# Altium footprint library BASIC Library.PCBLIB: 464 footprints (part 22 of 30)
Each footprint in its own frame and in the unit in brackets; x right, y up, seen from the top. Pads: shape width x height; smd on the part's side, far side on the other; paste and mask are expansions set on the pad; w line width, h text height; cw(c..) or ccw(c..) is an arc to the next point about the centre after c.
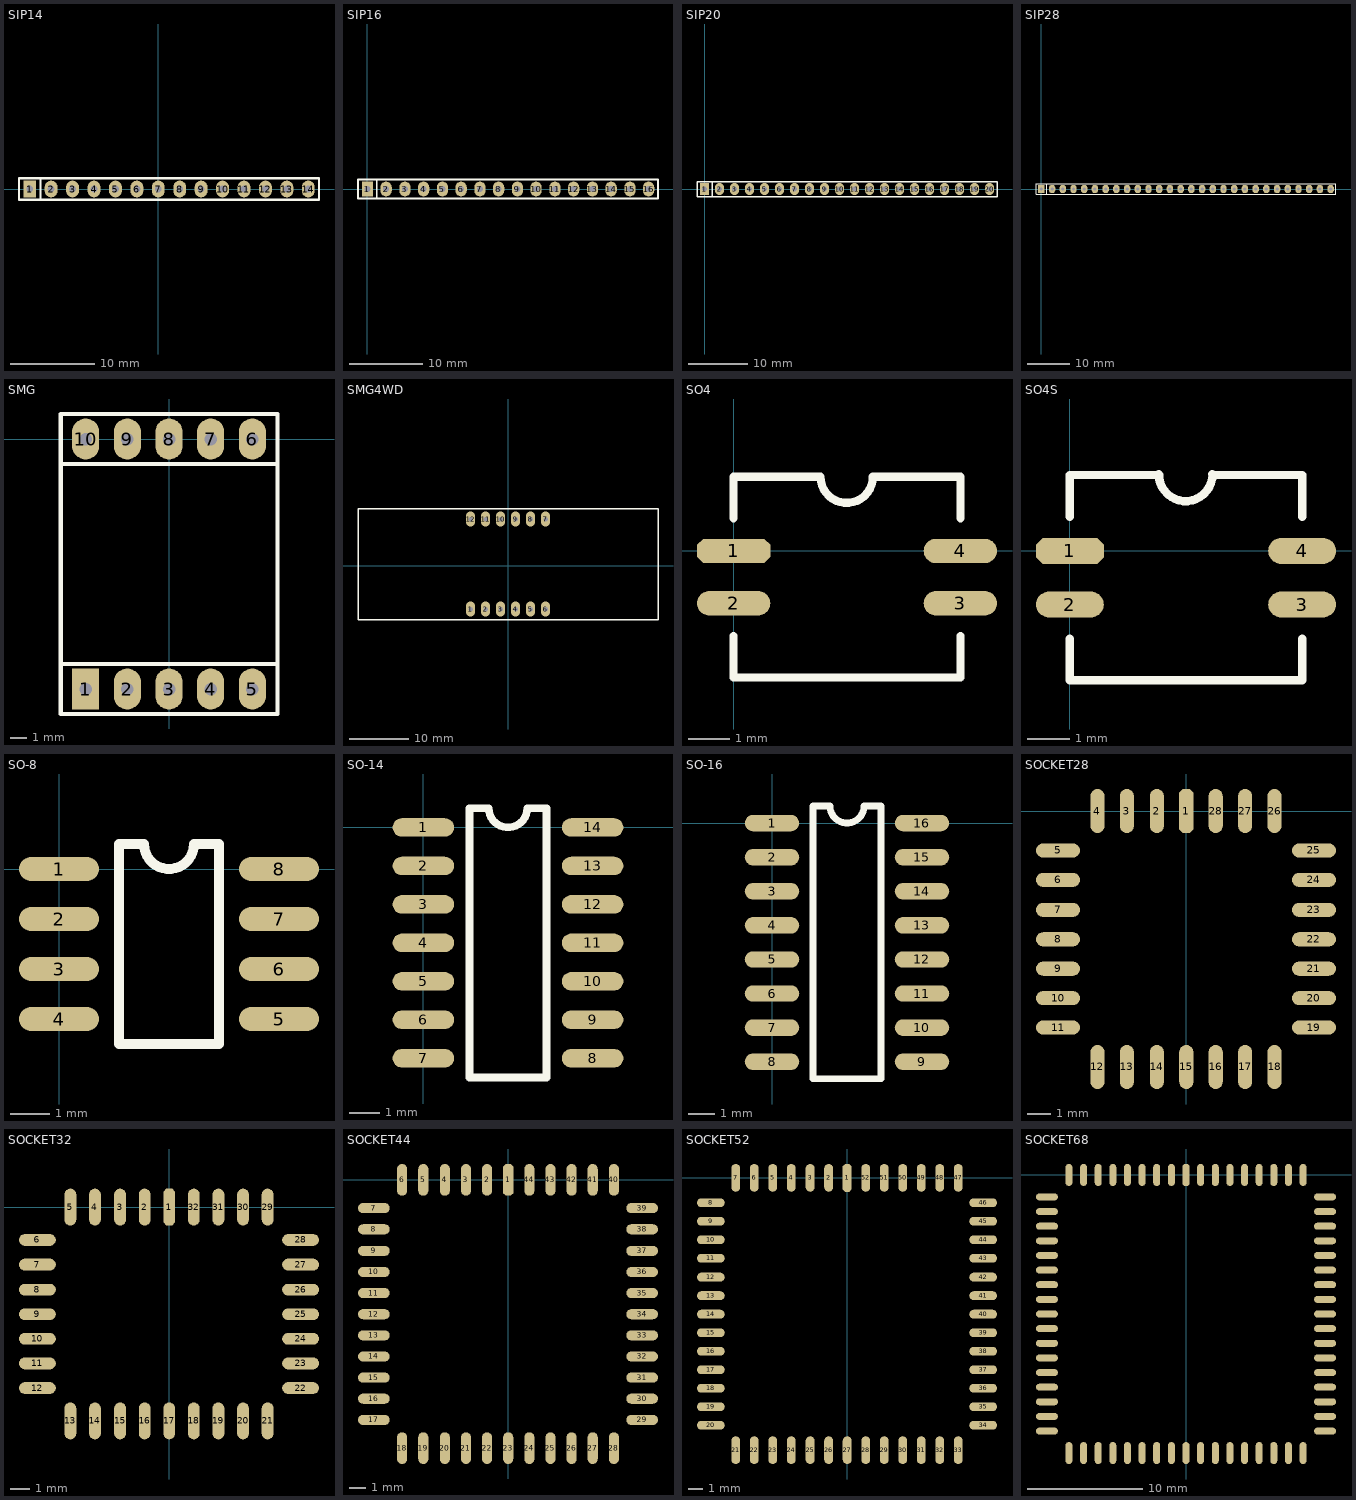
[diagram p21: the footprints below, top view; thin cyan lines are the x and y axes]

## SIP14 [mil]
pads (14):
  rect 60x78.74 hole 32: 1(-600,0)
  oval 60x78.74 hole 32: 2(-500,0) 3(-400,0) 4(-300,0) 5(-200,0) 6(-100,0) 7(0,0) 8(100,0) 9(200,0) 10(300,0) 11(400,0) 12(500,0) 13(600,0) 14(700,0)
TopOverlay:
  lines w10: -550,-50 -550,50 ; -650,-50 -650,50 550,50 750,50 750,-50 550,-50 -650,-50

## SIP16 [mil]
pads (16):
  rect 60x78.74 hole 32: 1(0,0)
  oval 60x78.74 hole 32: 2(100,0) 3(200,0) 4(300,0) 5(400,0) 6(500,0) 7(600,0) 8(700,0) 9(800,0) 10(900,0) 11(1000,0) 12(1100,0) 13(1200,0) 14(1300,0) 15(1400,0) 16(1500,0)
TopOverlay:
  lines w10: 50,-50 50,50 ; -50,-50 -50,50 1550,50 1550,-50 -50,-50

## SIP20 [mil]
pads (20):
  rect 60x78.74 hole 32: 1(0,0)
  oval 60x78.74 hole 32: 2(100,0) 3(200,0) 4(300,0) 5(400,0) 6(500,0) 7(600,0) 8(700,0) 9(800,0) 10(900,0) 11(1000,0) 12(1100,0) 13(1200,0) 14(1300,0) 15(1400,0) 16(1500,0) 17(1600,0) 18(1700,0) 19(1800,0) 20(1900,0)
TopOverlay:
  lines w10: 50,-50 50,50 ; -50,-50 -50,50 1950,50 1950,-50 -50,-50

## SIP28 [mil]
pads (28):
  rect 60x78.74 hole 32: 1(0,0)
  oval 60x78.74 hole 32: 2(100,0) 3(200,0) 4(300,0) 5(400,0) 6(500,0) 7(600,0) 8(700,0) 9(800,0) 10(900,0) 11(1000,0) 12(1100,0) 13(1200,0) 14(1300,0) 15(1400,0) 16(1500,0) 17(1600,0) 18(1700,0) 19(1800,0) 20(1900,0) 21(2000,0) 22(2100,0) 23(2200,0) 24(2300,0) 25(2400,0) 26(2500,0) 27(2600,0) 28(2700,0)
TopOverlay:
  lines w10: 50,-50 50,50 ; -50,-50 -50,50 2750,50 2750,-50 -50,-50

## SMG [mil]
pads (10):
  rect 65x98.42 hole 30: 1(-200,-600)
  oval 65x98.42 hole 30: 2(-100,-600) 3(0,-600) 4(100,-600) 5(200,-600) 6(200,0) 7(100,0) 8(0,0) 9(-100,0) 10(-200,0)
TopOverlay:
  lines w10: -260,-540 260,-540 ; -260,-60 260,-60 ; -260,-660 -260,60 260,60 260,-660 -260,-660

## SMG4WD [mil]
pads (12):
  oval 60x99.37 hole 30: 1(-250,-290) 2(-150,-290) 3(-50,-290) 4(50,-290) 5(150,-290) 6(250,-290) 7(250,310) 8(150,310) 9(50,310) 10(-50,310) 11(-150,310) 12(-250,310)
TopOverlay:
  lines w10: -1000,-360 1000,-360 1000,380 -1000,380 -1000,-360

## SO4 [mil]
pads (4):
  oct 70x23.33 smd: 1(0,0)
  oval 70x23.33 smd: 2(0,-50) 3(216.67,-50) 4(216.67,0)
TopOverlay:
  lines w7.87: 0,-81.35 0,-120.87 216.67,-120.87 216.67,-81.35 ; 0,31.35 0,70.87 82.68,70.87 ; 83.03,70.95 ccw(c108.03,70.95) 133.03,70.95 ; 133.86,70.87 216.53,70.87 ; 216.67,31.35 216.67,70.87

## SO4S [mil]
pads (4):
  oct 63.33x24.17 smd: 1(0,0)
  oval 63.33x24.17 smd: 2(0,-50) 3(216.67,-50) 4(216.67,0)
TopOverlay:
  lines w7.87: 0,-81.77 0,-120.87 216.67,-120.87 216.67,-81.77 ; 0,31.77 0,70.87 83.33,70.87 ; 83.03,71.47 ccw(c108.03,71.47) 133.03,71.47 ; 133.33,70.87 216.66,70.87 216.67,31.77

## SO-8 [mil]
pads (8):
  oval 80x24 smd: 1(0,0) 2(0,-50) 3(0,-100) 4(0,-150) 5(220,-150) 6(220,-100) 7(220,-50) 8(220,0)
TopOverlay:
  lines w10: 60,-175 60,25 85,25 ccw(c110,25) 135,25 160,25 160,-175 60,-175

## SO-14 [mil]
pads (14):
  oval 80x24 smd: 1(0,0) 2(0,-50) 3(0,-100) 4(0,-150) 5(0,-200) 6(0,-250) 7(0,-300) 8(220,-300) 9(220,-250) 10(220,-200) 11(220,-150) 12(220,-100) 13(220,-50) 14(220,0)
TopOverlay:
  lines w10: 60,-325 160,-325 160,25 135,25 cw(c110,25) 85,25 60,25 60,-325

## SO-16 [mil]
pads (16):
  oval 80x24 smd: 1(0,0) 2(0,-50) 3(0,-100) 4(0,-150) 5(0,-200) 6(0,-250) 7(0,-300) 8(0,-350) 9(220,-350) 10(220,-300) 11(220,-250) 12(220,-200) 13(220,-150) 14(220,-100) 15(220,-50) 16(220,0)
TopOverlay:
  lines w10: 60,-375 160,-375 160,25 135,25 cw(c110,25) 85,25 60,25 60,-375

## SOCKET28 [mil]
pads (28):
  oct 24x75 smd: 1(0,0)
  oval 24x75 smd: 2(-50,0) 3(-101,0) 4(-151,0) 12(-151,-435) 13(-101,-435) 14(-50,-435) 15(0,-435) 16(50,-435) 17(100,-435) 18(150,-435) 26(150,0) 27(100,0) 28(50,0)
  oval 75x24 smd: 5(-218,-67) 6(-218,-117) 7(-218,-168) 8(-218,-218) 9(-218,-268) 10(-218,-318) 11(-218,-368) 19(217,-368) 20(217,-318) 21(217,-268) 22(217,-218) 23(217,-168) 24(217,-117) 25(217,-67)

## SOCKET32 [mil]
pads (32):
  oct 24x75 smd: 1(0,0)
  oval 24x75 smd: 2(-50,0) 3(-100,0) 4(-151,0) 5(-201,0) 13(-201,-435) 14(-151,-435) 15(-100,-435) 16(-50,-435) 17(0,-435) 18(50,-435) 19(100,-435) 20(150,-435) 21(200,-435) 29(200,0) 30(150,0) 31(100,0) 32(50,0)
  oval 75x24 smd: 6(-268,-67) 7(-268,-117) 8(-268,-168) 9(-268,-218) 10(-268,-268) 11(-268,-318) 12(-268,-368) 22(267,-368) 23(267,-318) 24(267,-268) 25(267,-218) 26(267,-168) 27(267,-117) 28(267,-67)

## SOCKET44 [mil]
pads (44):
  oct 24x75 smd: 1(0,0)
  oval 24x75 smd: 2(-50,0) 3(-100,0) 4(-150,0) 5(-201,0) 6(-251,0) 18(-251,-635) 19(-201,-635) 20(-150,-635) 21(-100,-635) 22(-50,-635) 23(0,-635) 24(50,-635) 25(100,-635) 26(150,-635) 27(200,-635) 28(250,-635) 40(250,0) 41(200,0) 42(150,0) 43(100,0) 44(50,0)
  oval 75x24 smd: 7(-318,-67) 8(-318,-117) 9(-318,-168) 10(-318,-218) 11(-318,-268) 12(-318,-318) 13(-318,-368) 14(-318,-418) 15(-318,-468) 16(-318,-518) 17(-318,-568) 29(317,-568) 30(317,-518) 31(317,-468) 32(317,-418) 33(317,-368) 34(317,-318) 35(317,-268) 36(317,-218) 37(317,-168) 38(317,-117) 39(317,-67)

## SOCKET52 [mil]
pads (52):
  oct 24x75 smd: 1(0,0)
  oval 24x75 smd: 2(-50,0) 3(-100,0) 4(-151,0) 5(-201,0) 6(-251,0) 7(-301,0) 21(-301,-735) 22(-251,-735) 23(-201,-735) 24(-151,-735) 25(-100,-735) 26(-50,-735) 27(0,-735) 28(50,-735) 29(100,-735) 30(150,-735) 31(200,-735) 32(250,-735) 33(300,-735) 47(300,0) 48(250,0) 49(200,0) 50(150,0) 51(100,0) 52(50,0)
  oval 75x24 smd: 8(-368,-67) 9(-368,-117) 10(-368,-167) 11(-368,-217) 12(-368,-268) 13(-368,-318) 14(-368,-368) 15(-368,-418) 16(-368,-468) 17(-368,-518) 18(-368,-568) 19(-368,-618) 20(-368,-668) 34(367,-668) 35(367,-618) 36(367,-568) 37(367,-518) 38(367,-468) 39(367,-418) 40(367,-368) 41(367,-318) 42(367,-268) 43(367,-217) 44(367,-167) 45(367,-117) 46(367,-67)

## SOCKET68 [mil]
pads (68):
  oct 24x75 smd: 1(0,0)
  oval 24x75 smd: 2(-50,0) 3(-100,0) 4(-150,0) 5(-200,0) 6(-250,0) 7(-300,0) 8(-350,0) 9(-400,0) 27(-400,-950) 28(-350,-950) 29(-300,-950) 30(-250,-950) 31(-200,-950) 32(-150,-950) 33(-100,-950) 34(-50,-950) 35(0,-950) 36(50,-950) 37(100,-950) 38(150,-950) 39(200,-950) 40(250,-950) 41(300,-950) 42(350,-950) 43(400,-950) 61(400,0) 62(350,0) 63(300,0) 64(250,0) 65(200,0) 66(150,0) 67(100,0) 68(50,0)
  oval 75x24 smd: 10(-475,-75) 11(-475,-125) 12(-475,-175) 13(-475,-225) 14(-475,-275) 15(-475,-325) 16(-475,-375) 17(-475,-425) 18(-475,-475) 19(-475,-525) 20(-475,-575) 21(-475,-625) 22(-475,-675) 23(-475,-725) 24(-475,-775) 25(-475,-825) 26(-475,-875) 44(475,-875) 45(475,-825) 46(475,-775) 47(475,-725) 48(475,-675) 49(475,-625) 50(475,-575) 51(475,-525) 52(475,-475) 53(475,-425) 54(475,-375) 55(475,-325) 56(475,-275) 57(475,-225) 58(475,-175) 59(475,-125) 60(475,-75)